# EAGLE library part HV507 (library HV507)
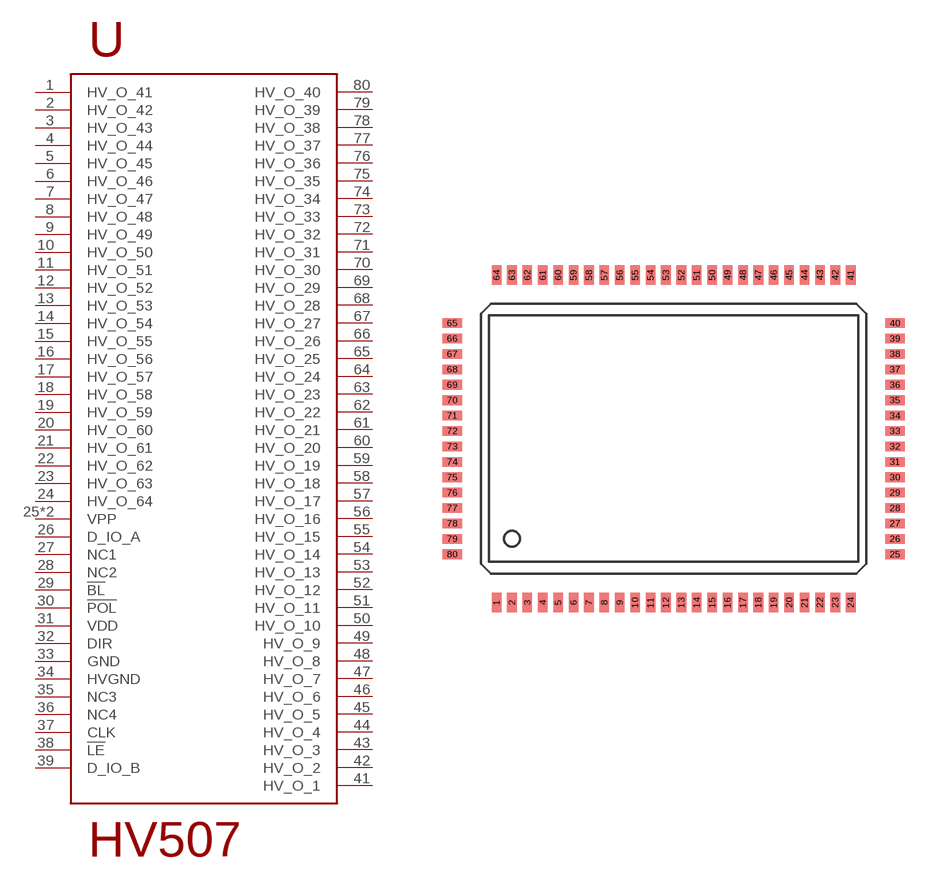
[diagram p0: symbol with the pads of HV507PG-G; footprint HV507PG-G]

Designator prefix -

## HV507  [HV507PG-G]
1  HV_O_41
2  HV_O_42
3  HV_O_43
4  HV_O_44
5  HV_O_45
6  HV_O_46
7  HV_O_47
8  HV_O_48
9  HV_O_49
10  HV_O_50
11  HV_O_51
12  HV_O_52
13  HV_O_53
14  HV_O_54
15  HV_O_55
16  HV_O_56
17  HV_O_57
18  HV_O_58
19  HV_O_59
20  HV_O_60
21  HV_O_61
22  HV_O_62
23  HV_O_63
24  HV_O_64
25  VPP
26  D_IO_A
27  NC1
28  NC2
29  !BL
30  !POL
31  VDD
32  DIR
33  GND
34  HVGND
35  NC3
36  NC4
37  CLK
38  !LE
39  D_IO_B
40  VPP
41  HV_O_1
42  HV_O_2
43  HV_O_3
44  HV_O_4
45  HV_O_5
46  HV_O_6
47  HV_O_7
48  HV_O_8
49  HV_O_9
50  HV_O_10
51  HV_O_11
52  HV_O_12
53  HV_O_13
54  HV_O_14
55  HV_O_15
56  HV_O_16
57  HV_O_17
58  HV_O_18
59  HV_O_19
60  HV_O_20
61  HV_O_21
62  HV_O_22
63  HV_O_23
64  HV_O_24
65  HV_O_25
66  HV_O_26
67  HV_O_27
68  HV_O_28
69  HV_O_29
70  HV_O_30
71  HV_O_31
72  HV_O_32
73  HV_O_33
74  HV_O_34
75  HV_O_35
76  HV_O_36
77  HV_O_37
78  HV_O_38
79  HV_O_39
80  HV_O_40

## Footprint HV507PG-G (pad centres in mm)
smd 0.5 x 1: 1 -9.2,-8.5; 2 -8.4,-8.5; 3 -7.6,-8.5; 4 -6.8,-8.5; 5 -6,-8.5; 6 -5.2,-8.5; 7 -4.4,-8.5; 8 -3.6,-8.5; 9 -2.8,-8.5; 10 -2,-8.5; 11 -1.2,-8.5; 12 -0.4,-8.5; 13 0.4,-8.5; 14 1.2,-8.5; 15 2,-8.5; 16 2.8,-8.5; 17 3.6,-8.5; 18 4.4,-8.5; 19 5.2,-8.5; 20 6,-8.5; 21 6.8,-8.5; 22 7.6,-8.5; 23 8.4,-8.5; 24 9.2,-8.5; 41 9.2,8.5; 42 8.4,8.5; 43 7.6,8.5; 44 6.8,8.5; 45 6,8.5; 46 5.2,8.5; 47 4.4,8.5; 48 3.6,8.5; 49 2.8,8.5; 50 2,8.5; 51 1.2,8.5; 52 0.4,8.5; 53 -0.4,8.5; 54 -1.2,8.5; 55 -2,8.5; 56 -2.8,8.5; 57 -3.6,8.5; 58 -4.4,8.5; 59 -5.2,8.5; 60 -6,8.5; 61 -6.8,8.5; 62 -7.6,8.5; 63 -8.4,8.5; 64 -9.2,8.5
smd 1 x 0.5: 25 11.5,-6; 26 11.5,-5.2; 27 11.5,-4.4; 28 11.5,-3.6; 29 11.5,-2.8; 30 11.5,-2; 31 11.5,-1.2; 32 11.5,-0.4; 33 11.5,0.4; 34 11.5,1.2; 35 11.5,2; 36 11.5,2.8; 37 11.5,3.6; 38 11.5,4.4; 39 11.5,5.2; 40 11.5,6; 65 -11.5,6; 66 -11.5,5.2; 67 -11.5,4.4; 68 -11.5,3.6; 69 -11.5,2.8; 70 -11.5,2; 71 -11.5,1.2; 72 -11.5,0.4; 73 -11.5,-0.4; 74 -11.5,-1.2; 75 -11.5,-2; 76 -11.5,-2.8; 77 -11.5,-3.6; 78 -11.5,-4.4; 79 -11.5,-5.2; 80 -11.5,-6